# Altium schematic symbol library SI3434-TP.SchLib: 1 symbol
Pins are listed as number, name and electrical type; pins without a type are passive.

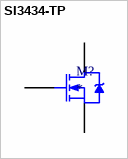
[diagram p0: symbol SI3434-TP]

## SI3434-TP
designator M?
MfrPartNo: *
pins: 1 G, 2 S, 3 D